# Altium footprint library CH0603R.PcbLib: 1 footprints
Each footprint in its own frame and in the unit in brackets; x right, y up, seen from the top. Pads: shape width x height; smd on the part's side, far side on the other; paste and mask are expansions set on the pad; w line width, h text height; cw(c..) or ccw(c..) is an arc to the next point about the centre after c.
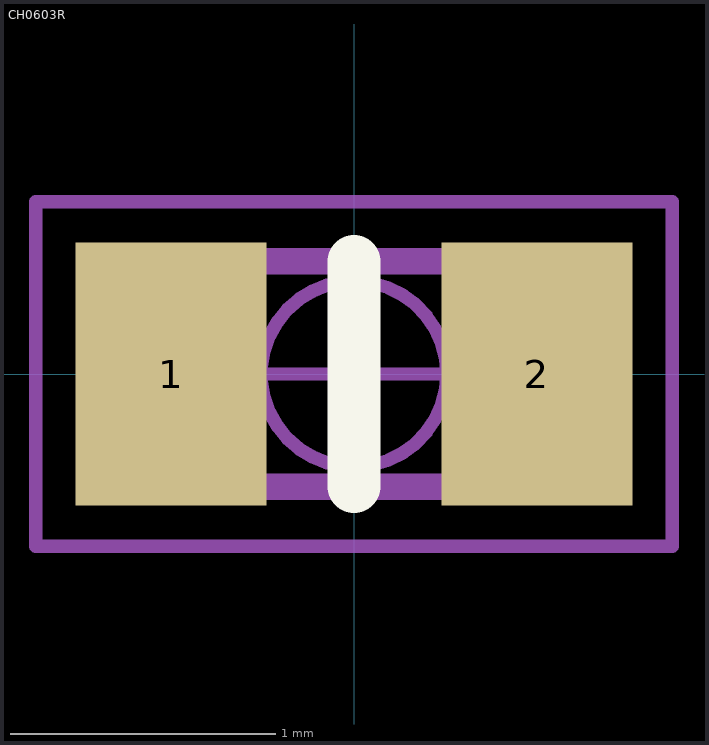
[diagram p0: the footprint, top view; thin cyan lines are the x and y axes]

## CH0603R [mm] "Chip Resistor, EIA 0603, Metric 1608, Body 1.6x0.8mm, IPC Medium Density"
height 0.5
pads (2):
  rect 0.72x0.99 smd: 1(-0.69,0) 2(0.69,0)
Top Overlay:
  lines w0.2: 0,-0.425 0,0.425
Mechanical 14:
  lines w0.1: -0.788,-0.425 -0.788,0.425 0.788,0.425 0.788,-0.425 -0.788,-0.425
Mechanical 15:
  circle w0.05: c0,0 r0.35
  lines w0.05: -0.5,0 0.5,0 ; 0,-0.5 0,0.5 ; -1.2,-0.65 -1.2,0.65 1.2,0.65 1.2,-0.65 -1.2,-0.65
3D body "RESC1608X50N.stp": height 0.5, standoff 0, extent -0.875,-0.475 0.875,0.475